# EAGLE library part 615008149521R (library Input-Output_Connectors_rev15d)
WR-MJ_Modular Jack_Tab UP_8P8C_MiddleAssembly 8P8C Tab UP_Middle Assembly Housing Code : Con_WR-MJ_Horizontal_Plastic_6150xx149521 <http://katalog.we-online.de/media/images/eican/Con_WR-MJ_Horizontal_Plastic_6150xx149521_pf2.jpg> Details see: http://katalog.we-online.de/en/em/615_0xx_149_521/615_008_149_521_R?m Created 2014-12-22, aslant tao 2014 (C) Würth Elektronik
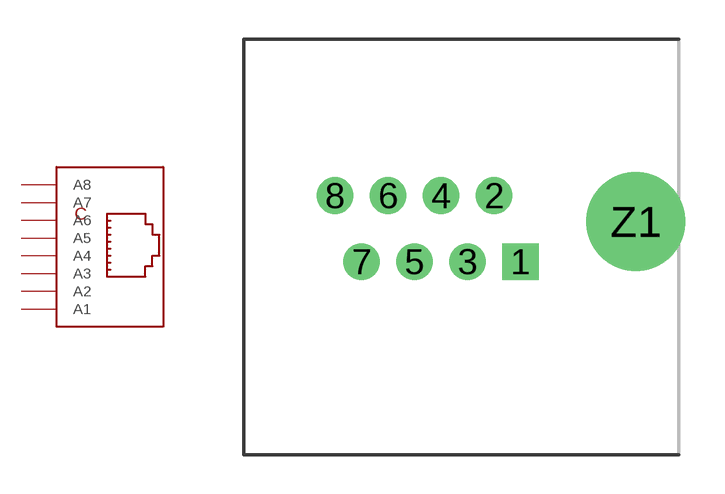
[diagram p174: symbol with the pads of 615008149521R; footprint 615008149521R]

Designator prefix K

## 615008149521R  [615008149521R]
1  A1  pas
2  A2  pas
3  A3  pas
4  A4  pas
5  A5  pas
6  A6  pas
7  A7  pas
8  A8  pas

## Footprint 615008149521R (pad centres in mm)
WR-MJ_Modular Jack_Tab UP_8P8C_MiddleAssembly 8P8C Tab UP_Middle Assembly Housing
drill 0.9 pad 1.4 square: 1 -4.43,-1.54
drill 0.9 pad 1.4: 2 -5.45,1; 3 -6.47,-1.54; 4 -7.49,1; 5 -8.51,-1.54; 6 -9.53,1; 7 -10.55,-1.54; 8 -11.57,1
drill 2.8: Z1 0,0